# EAGLE library part ISL23348_SD (library TIparts)
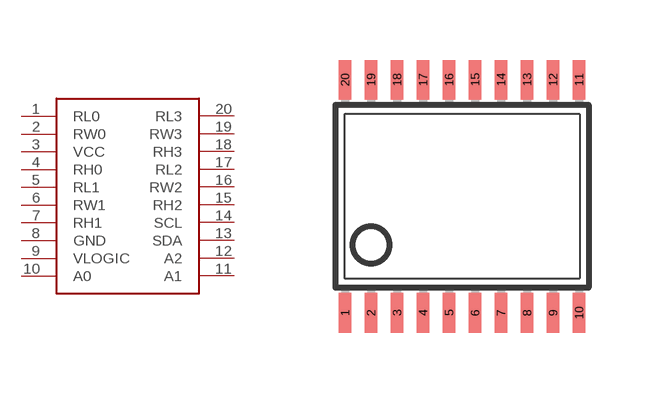
[diagram p5: symbol with the pads of TSSOP-20; footprint TSSOP-20]

Designator prefix -

## ISL23348_SD  [TSSOP-20]
1  RL0
2  RW0
3  VCC
4  RH0
5  RL1
6  RW1
7  RH1
8  GND
9  VLOGIC
10  A0
11  A1
12  A2
13  SDA
14  SCL
15  RH2
16  RW2
17  RL2
18  RH3
19  RW3
20  RL3

## Footprint TSSOP-20 (pad centres in mm)
smd 0.305 x 0.991: 1 -2.925,-2.918; 2 -2.275,-2.918; 3 -1.625,-2.918; 4 -0.975,-2.918; 5 -0.325,-2.918; 6 0.325,-2.918; 7 0.975,-2.918; 8 1.625,-2.918; 9 2.275,-2.918; 10 2.925,-2.918; 11 2.925,2.918; 12 2.275,2.918; 13 1.625,2.918; 14 0.975,2.918; 15 0.325,2.918; 16 -0.325,2.918; 17 -0.975,2.918; 18 -1.625,2.918; 19 -2.275,2.918; 20 -2.925,2.918